# Altium schematic symbol library AMP-SO-8.A1.SchLib: 1 symbol
Pins are listed as number, name and electrical type; pins without a type are passive.

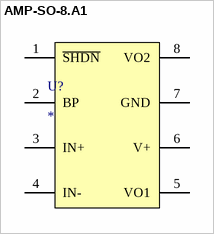
[diagram p0: symbol AMP-SO-8.A1]

## AMP-SO-8.A1
designator U?
pins: 1 ~{SHDN}, 2 BP, 3 IN+, 4 IN-, 5 VO1, 6 V+, 7 GND, 8 VO2